# EAGLE library part 0512810594 (library FPC FFC Connectors)
CONN FFC FPC 5POS 0.50MM R/A Manufacturer's datasheet <https://www.molex.com/pdm_docs/sd/512810694_sd.pdf>
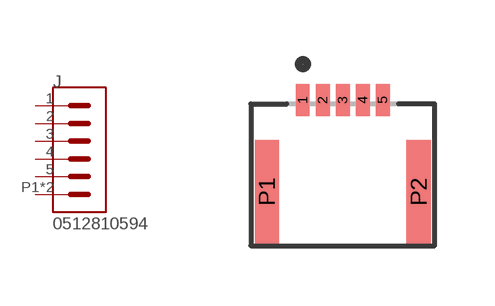
[diagram p3: symbol with the pads of 0512810594; footprint 0512810594]

Designator prefix J

## 0512810594 (CREATED_BY: PCBLayout.com; DIGIKEY_PART_NUMBER: WM12846TR-ND; MANUFACTURER: Molex; MPN: 0512810594)  [0512810594]
1  1  pas
2  2  pas
3  3  pas
4  4  pas
5  5  pas
P1  SHIELD  pwr
P2  SHIELD  pwr

## Footprint 0512810594 (pad centres in mm)
smd 0.35 x 0.8: 1 -1,2.3; 2 -0.5,2.3; 3 0,2.3; 4 0.5,2.3; 5 1,2.3
smd 0.6 x 2.6: P1 -1.9,0; P2 1.9,0